# Altium schematic symbol library LT LT1965ADJ DD_MS8E.SchLib: 1 symbol
Pins are listed as number, name and electrical type; pins without a type are passive.

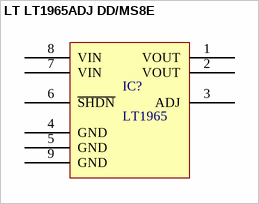
[diagram p0: symbol LT LT1965ADJ DD/MS8E]

## LT LT1965ADJ DD/MS8E
designator IC?, comment LT1965
1.1A, Low Noise, Low Dropout Linear Regulator
pins: 1 VOUT, 2 VOUT, 3 ADJ, 4 GND, 5 GND, 6 ~{SHDN}, 7 VIN, 8 VIN, 9 GND